# Altium schematic symbol library VOS618A-7T.SchLib: 1 symbol
Pins are listed as number, name and electrical type; pins without a type are passive.

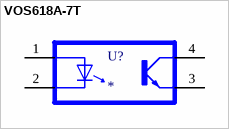
[diagram p0: symbol VOS618A-7T]

## VOS618A-7T
designator U?
Optoisolator Transistor Output 3750Vrms 1 Channel 4-SSOP; MF: Vishay; MP: VOS618A-7T; Price: None; Package: SSOP-4 Vishay; Value: *; SnapEDA_Link: https://www.snapeda.com/parts/VOS618A-7T/Vishay%20Semiconductor%20Opto%20Division/view-part/697930/?ref=snap; Availability: Unavailable
footprint SOIC127P700X210-4N
pins: 1 A, 2 C, 3 E, 4 CO